# Altium footprint library L_Shaped_Button.PcbLib: 1 footprints
Each footprint in its own frame and in the unit in brackets; x right, y up, seen from the top. Pads: shape width x height; smd on the part's side, far side on the other; paste and mask are expansions set on the pad; w line width, h text height; cw(c..) or ccw(c..) is an arc to the next point about the centre after c.
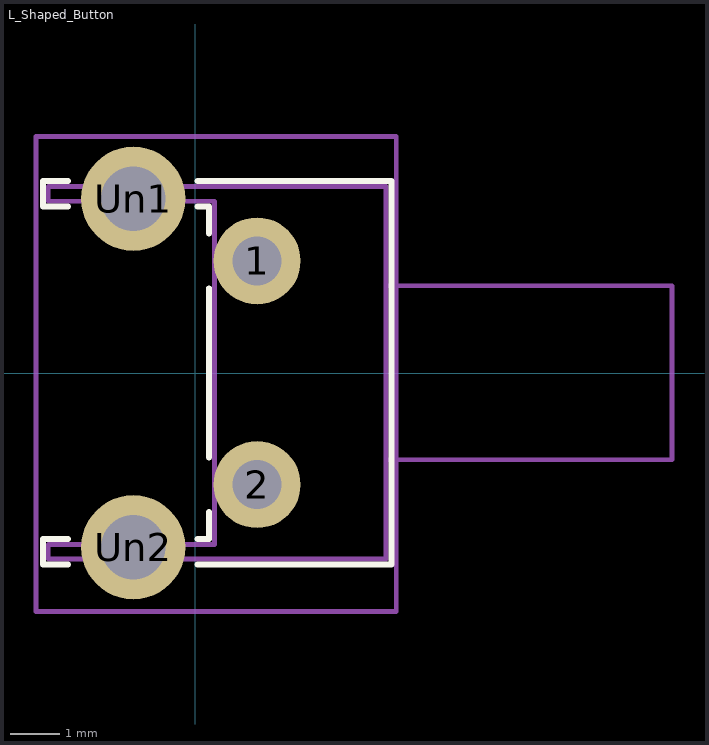
[diagram p0: the footprint, top view; thin cyan lines are the x and y axes]

## L_Shaped_Button [mm]
pads (4):
  round 1.75 hole 0.99 paste-1.75 mask+0: 1(1.245,2.255) 2(1.245,-2.245)
  round 2.1 hole 1.3 paste-2.1 mask+0: Un1(-1.245,3.505) Un2(-1.245,-3.505)
Top Overlay:
  lines w0.12: -2.555,-3.855 -3.065,-3.855 -3.065,-3.335 -2.555,-3.335 ; -2.555,3.345 -3.065,3.345 -3.065,3.865 -2.555,3.865 ; 0.045,-3.855 3.945,-3.855 3.945,3.865 0.045,3.865 ; 0.045,-3.335 0.275,-3.335 0.275,-2.795 ; 0.045,3.345 0.275,3.345 0.275,2.805 ; 0.275,-1.695 0.275,1.705
Mechanical 1:
  lines w0.1: 3.835,-1.745 9.595,-1.745 9.595,1.755 3.835,1.755 ; -3.205,-4.795 4.045,-4.795 4.045,4.755 -3.205,4.755 -3.205,-4.795 ; -2.955,-3.745 3.835,-3.745 3.835,3.755 -2.955,3.755 -2.955,3.455 0.385,3.455 0.385,-3.445 -2.955,-3.445 -2.955,-3.745
  text ".Designator" at 0,0.188 h1
Mechanical 15:
  text "+" at -0.333,-0.5 h1
3D body "SW_Tactile_SPST_Angled_PTS645Vx83-2LFS.step": height 7.08, standoff -3.92, extent -2.895,-3.695 9.505,3.705